# EAGLE library part FH12S-40S-0.5SH(55) (library hirose)
SOCKET FFC/FPC, ZIF, 0.5MM, 40WAY
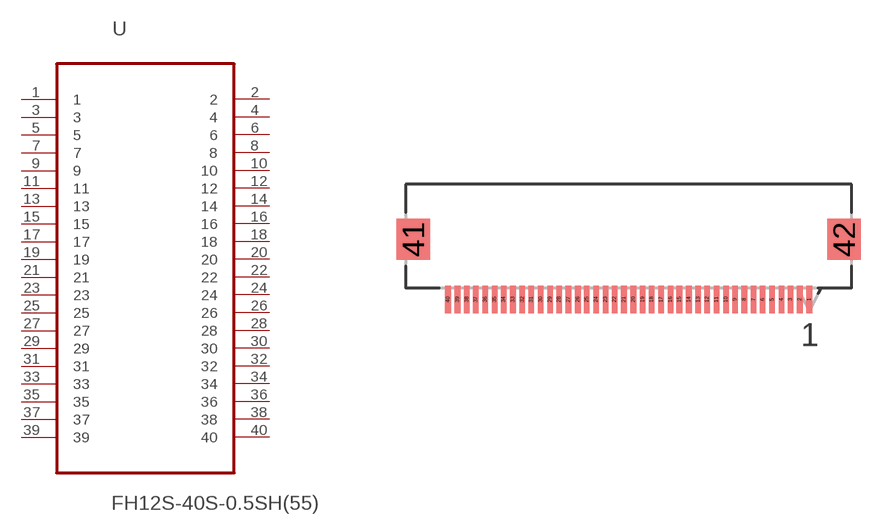
[diagram p5: symbol with the pads of HIROSE_FH12S-40S-0.5SH(55); footprint HIROSE_FH12S-40S-0.5SH(55)]

Designator prefix U

## FH12S-40S-0.5SH(55) (MPN: FH12S-40S-0.5SH(55); OC_FARNELL: 1324588; OC_NEWARK: 34M6197; PACKAGE: SOCKET FFC/FPC, ZIF, 0.5MM, 40WAY; SUPPLIER: Hirose)  [HIROSE_FH12S-40S-0.5SH(55)]
1  1  pas
2  2  pas
3  3  pas
4  4  pas
5  5  pas
6  6  pas
7  7  pas
8  8  pas
9  9  pas
10  10  pas
11  11  pas
12  12  pas
13  13  pas
14  14  pas
15  15  pas
16  16  pas
17  17  pas
18  18  pas
19  19  pas
20  20  pas
21  21  pas
22  22  pas
23  23  pas
24  24  pas
25  25  pas
26  26  pas
27  27  pas
28  28  pas
29  29  pas
30  30  pas
31  31  pas
32  32  pas
33  33  pas
34  34  pas
35  35  pas
36  36  pas
37  37  pas
38  38  pas
39  39  pas
40  40  pas

## Footprint HIROSE_FH12S-40S-0.5SH(55) (pad centres in mm)
smd 0.305 x 1.499: 1 9.754,3.429; 2 9.246,3.429; 3 8.738,3.429; 4 8.255,3.429; 5 7.747,3.429; 6 7.239,3.429; 7 6.756,3.429; 8 6.248,3.429; 9 5.74,3.429; 10 5.258,3.429; 11 4.75,3.429; 12 4.242,3.429; 13 3.759,3.429; 14 3.251,3.429; 15 2.743,3.429; 16 2.261,3.429; 17 1.753,3.429; 18 1.245,3.429; 19 0.762,3.429; 20 0.254,3.429; 21 -0.254,3.429; 22 -0.762,3.429; 23 -1.245,3.429; 24 -1.753,3.429; 25 -2.261,3.429; 26 -2.743,3.429; 27 -3.251,3.429; 28 -3.759,3.429; 29 -4.242,3.429; 30 -4.75,3.429; 31 -5.258,3.429; 32 -5.74,3.429; 33 -6.248,3.429; 34 -6.756,3.429; 35 -7.239,3.429; 36 -7.747,3.429; 37 -8.255,3.429; 38 -8.738,3.429; 39 -9.246,3.429; 40 -9.754,3.429
smd 1.803 x 2.21: 41 -11.633,6.68; 42 11.633,6.68